# Altium schematic symbol library pot_sw.SchLib: 4 symbols
Pins are listed as number, name and electrical type; pins without a type are passive.

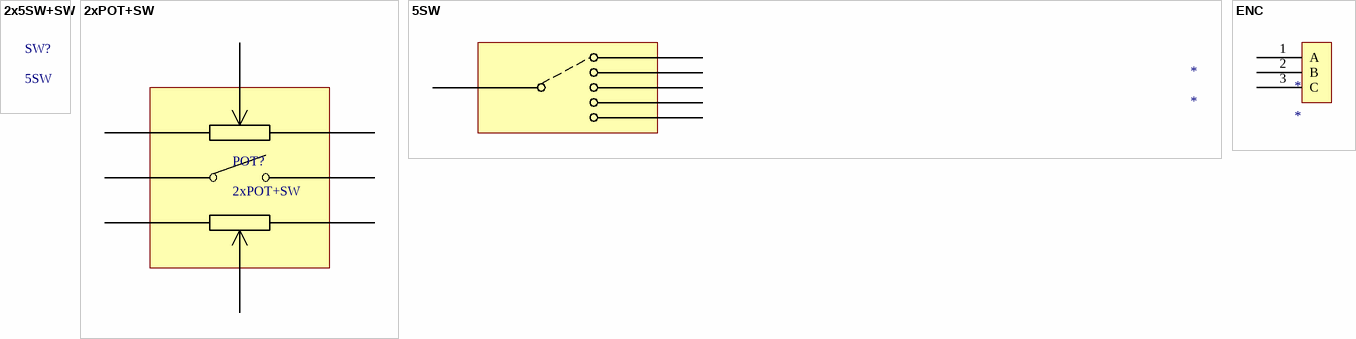
[diagram p0: symbols 2x5SW+SW to ENC]

## 2x5SW+SW
designator SW?, comment 5SW
footprint 2x5SW+SW (2 niezalezne 5-pozycyjne przelaczniki z przyciskiem)

## 2xPOT+SW
designator POT?
footprint 2xPOT+SW (2 podwójne niezależne potencjometry z przyciskiem)
pins: 1, 2, 3, 4, 5, 6, 7, 8

## 5SW
designator *
pins: 1, 2, 3, 4, 5, 6

## ENC
designator *
pins: 1 A, 2 B, 3 C